# Altium footprint library SMD Resistors 0603.PcbLib: 67 footprints (part 3 of 5)
Each footprint in its own frame and in the unit in brackets; x right, y up, seen from the top. Pads: shape width x height; smd on the part's side, far side on the other; paste and mask are expansions set on the pad; w line width, h text height; cw(c..) or ccw(c..) is an arc to the next point about the centre after c.
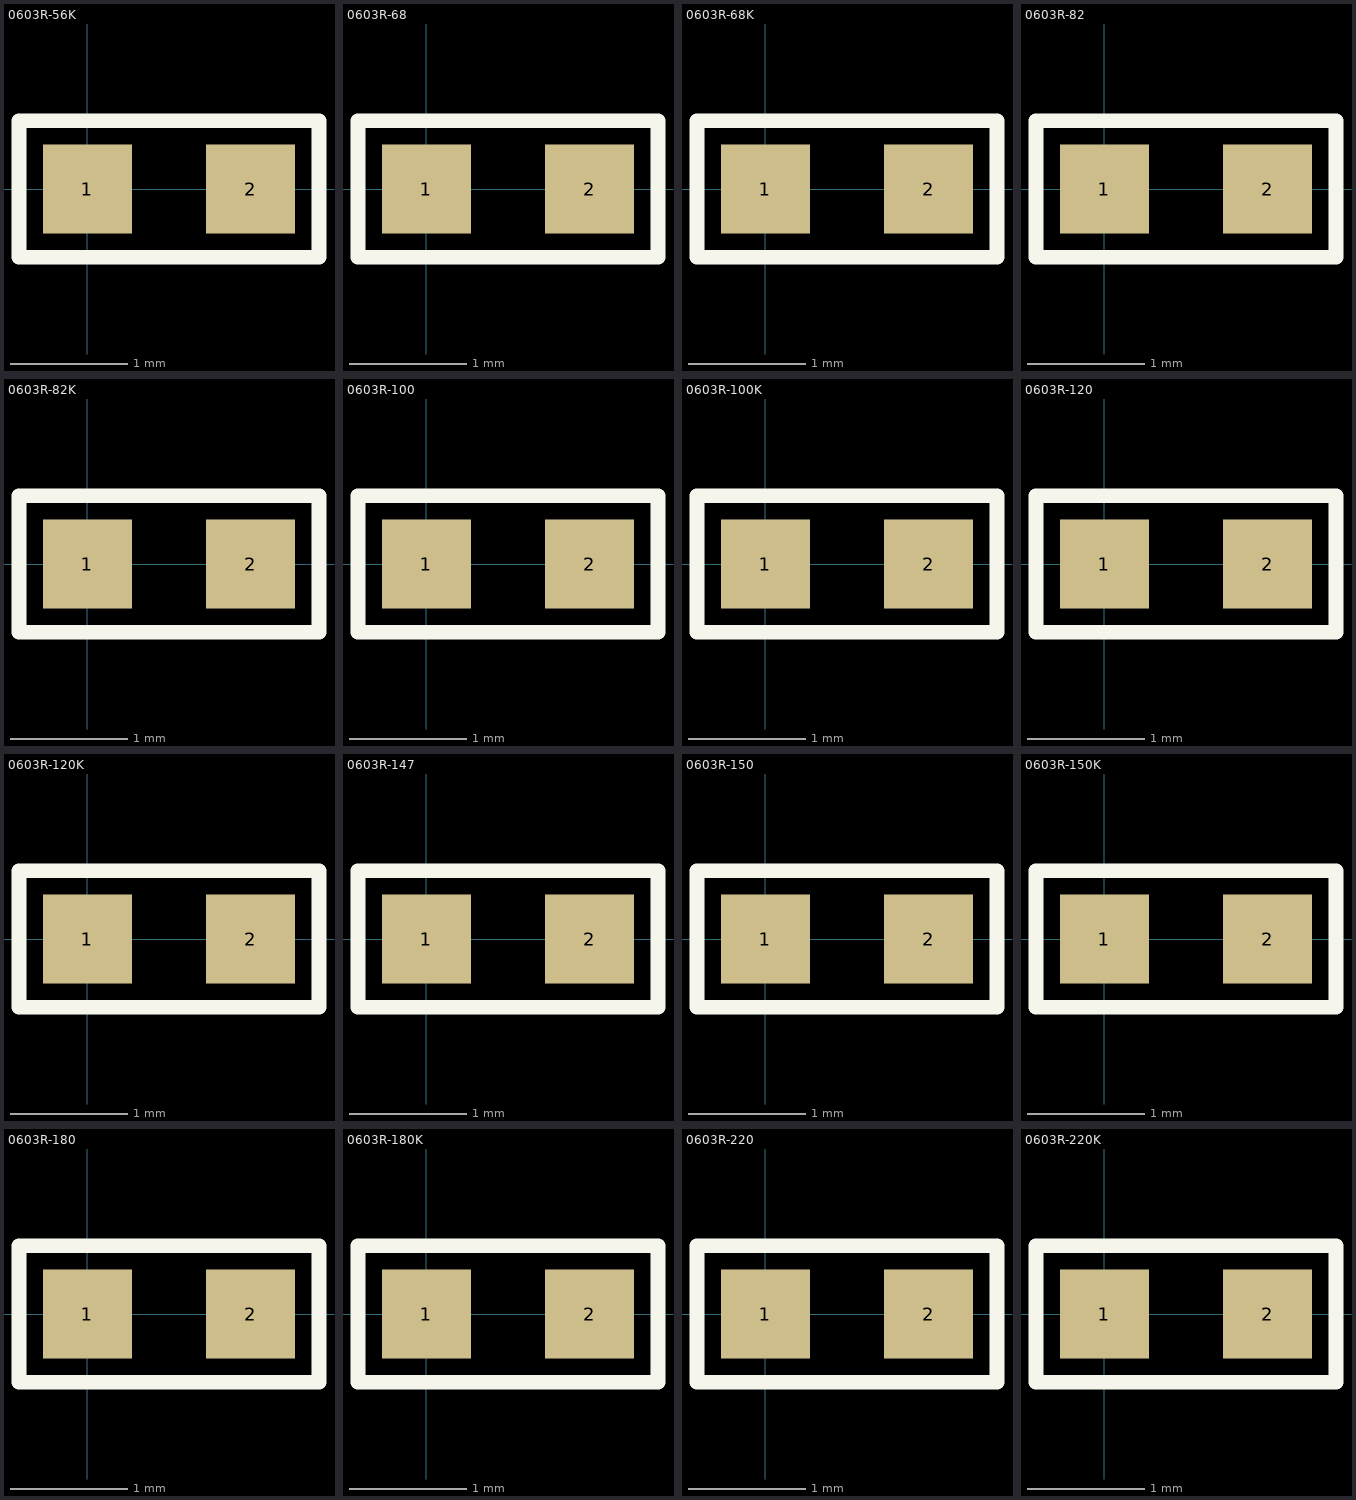
[diagram p2: the footprints below, top view; thin cyan lines are the x and y axes]

## 0603R-56K [mil] "RESISTOR 0603"
pads (2):
  rect 30x30 smd: 1(0,0) 2(55,0)
Top Overlay:
  lines w5: -23,-23 -23,23 78,23 78,-23 -23,-23
3D body: height 18, standoff 0, extent -3,-14 58,14
3D body: height 19, standoff 18, extent 5,-13 50,13
3D body: height 19, standoff 0, extent 50,-15 59,15
3D body: height 19, standoff 0, extent -4,-15 5,15
3D body: height 20, standoff 19, extent 17.5,-5 22.5,5
3D body: height 20, standoff 19, extent 25,-5 30,5
3D body: height 20, standoff 19, extent 32.5,-5 37.5,5

## 0603R-68 [mil] "RESISTOR 0603"
pads (2):
  rect 30x30 smd: 1(0,0) 2(55,0)
Top Overlay:
  lines w5: -23,-23 78,-23 78,23 -23,23 -23,-23
3D body: height 20, standoff 19, extent 32.5,-5 37.5,5
3D body: height 20, standoff 19, extent 17.5,-5 22.5,5
3D body: height 20, standoff 19, extent 25.25,-5.25 30.25,4.75
3D body: height 19, standoff 0, extent -4,-15 5,15
3D body: height 19, standoff 0, extent 50,-15 59,15
3D body: height 19, standoff 18, extent 5,-13 50,13
3D body: height 18, standoff 0, extent -3,-14 58,14

## 0603R-68K [mil] "RESISTOR 0603"
pads (2):
  rect 30x30 smd: 1(0,0) 2(55,0)
Top Overlay:
  lines w5: -23,-23 78,-23 78,23 -23,23 -23,-23
3D body: height 20, standoff 19, extent 17.5,-5 22.5,5
3D body: height 20, standoff 19, extent 25.25,-5.25 30.25,4.75
3D body: height 19, standoff 0, extent -4,-15 5,15
3D body: height 19, standoff 0, extent 50,-15 59,15
3D body: height 19, standoff 18, extent 5,-13 50,13
3D body: height 18, standoff 0, extent -3,-14 58,14
3D body: height 20, standoff 19, extent 32.5,-5 37.5,5

## 0603R-82 [mil] "RESISTOR 0603"
pads (2):
  rect 30x30 smd: 1(0,0) 2(55,0)
Top Overlay:
  lines w5: -23,-23 -23,23 78,23 78,-23 -23,-23
3D body: height 20, standoff 19, extent 25,-5 30,5
3D body: height 18, standoff 0, extent -3,-14 58,14
3D body: height 19, standoff 18, extent 5,-13 50,13
3D body: height 19, standoff 0, extent 50,-15 59,15
3D body: height 19, standoff 0, extent -4,-15 5,15
3D body: height 20, standoff 19, extent 17.5,-5 22.5,5
3D body: height 20, standoff 19, extent 32.5,-5 37.5,5

## 0603R-82K [mil] "RESISTOR 0603"
pads (2):
  rect 30x30 smd: 1(0,0) 2(55,0)
Top Overlay:
  lines w5: -23,-23 -23,23 78,23 78,-23 -23,-23
3D body: height 20, standoff 19, extent 25,-5 30,5
3D body: height 18, standoff 0, extent -3,-14 58,14
3D body: height 19, standoff 18, extent 5,-13 50,13
3D body: height 19, standoff 0, extent 50,-15 59,15
3D body: height 19, standoff 0, extent -4,-15 5,15
3D body: height 20, standoff 19, extent 17.5,-5 22.5,5
3D body: height 20, standoff 19, extent 32.5,-5 37.5,5

## 0603R-100 [mil] "RESISTOR 0603"
pads (2):
  rect 30x30 smd: 1(0,0) 2(55,0)
Top Overlay:
  lines w5: -23,-23 78,-23 78,23 -23,23 -23,-23
3D body: height 20, standoff 19, extent 32.5,-5 37.5,5
3D body: height 20, standoff 19, extent 17.5,-5 22.5,5
3D body: height 19, standoff 0, extent -4,-15 5,15
3D body: height 19, standoff 0, extent 50,-15 59,15
3D body: height 19, standoff 18, extent 5,-13 50,13
3D body: height 18, standoff 0, extent -3,-14 58,14
3D body: height 20, standoff 19, extent 25,-5 30,5

## 0603R-100K [mil] "RESISTOR 0603"
pads (2):
  rect 30x30 smd: 1(0,0) 2(55,0)
Top Overlay:
  lines w5: -23,-23 -23,23 78,23 78,-23 -23,-23
3D body: height 20, standoff 19, extent 32.5,-5 37.5,5
3D body: height 20, standoff 19, extent 25,-5 30,5
3D body: height 18, standoff 0, extent -3,-14 58,14
3D body: height 19, standoff 18, extent 5,-13 50,13
3D body: height 19, standoff 0, extent 50,-15 59,15
3D body: height 19, standoff 0, extent -4,-15 5,15
3D body: height 20, standoff 19, extent 17.5,-5 22.5,5

## 0603R-120 [mil] "RESISTOR 0603"
pads (2):
  rect 30x30 smd: 1(0,0) 2(55,0)
Top Overlay:
  lines w5: -23,-23 78,-23 78,23 -23,23 -23,-23
3D body: height 20, standoff 19, extent 32.5,-5 37.5,5
3D body: height 20, standoff 19, extent 17.5,-5 22.5,5
3D body: height 19, standoff 0, extent -4,-15 5,15
3D body: height 19, standoff 0, extent 50,-15 59,15
3D body: height 19, standoff 18, extent 5,-13 50,13
3D body: height 18, standoff 0, extent -3,-14 58,14
3D body: height 20, standoff 19, extent 25,-5 30,5

## 0603R-120K [mil] "RESISTOR 0603"
pads (2):
  rect 30x30 smd: 1(0,0) 2(55,0)
Top Overlay:
  lines w5: -23,-23 78,-23 78,23 -23,23 -23,-23
3D body: height 20, standoff 19, extent 32.5,-5 37.5,5
3D body: height 20, standoff 19, extent 17.5,-5 22.5,5
3D body: height 19, standoff 0, extent -4,-15 5,15
3D body: height 19, standoff 0, extent 50,-15 59,15
3D body: height 19, standoff 18, extent 5,-13 50,13
3D body: height 18, standoff 0, extent -3,-14 58,14
3D body: height 20, standoff 19, extent 25,-5 30,5

## 0603R-147 [mil] "RESISTOR 0603"
pads (2):
  rect 30x30 smd: 1(0,0) 2(55,0)
Top Overlay:
  lines w5: -23,-23 78,-23 78,23 -23,23 -23,-23
3D body: height 20, standoff 19, extent 28.5,-4.5 33.5,5.5
3D body: height 20, standoff 19, extent 22.5,-4.5 27.5,5.5
3D body: height 20, standoff 19, extent 17,-4.5 22,5.5
3D body: height 19, standoff 0, extent -4,-15 5,15
3D body: height 19, standoff 0, extent 50,-15 59,15
3D body: height 19, standoff 18, extent 5,-13 50,13
3D body: height 18, standoff 0, extent -3,-14 58,14
3D body: height 20, standoff 19, extent 35.5,-4.5 40.5,5.5

## 0603R-150 [mil] "RESISTOR 0603"
pads (2):
  rect 30x30 smd: 1(0,0) 2(55,0)
Top Overlay:
  lines w5: -23,-23 78,-23 78,23 -23,23 -23,-23
3D body: height 20, standoff 19, extent 32.5,-5 37.5,5
3D body: height 20, standoff 19, extent 25,-5 30,5
3D body: height 20, standoff 19, extent 17.5,-5 22.5,5
3D body: height 19, standoff 0, extent -4,-15 5,15
3D body: height 19, standoff 0, extent 50,-15 59,15
3D body: height 19, standoff 18, extent 5,-13 50,13
3D body: height 18, standoff 0, extent -3,-14 58,14

## 0603R-150K [mil] "RESISTOR 0603"
pads (2):
  rect 30x30 smd: 1(0,0) 2(55,0)
Top Overlay:
  lines w5: -23,-23 78,-23 78,23 -23,23 -23,-23
3D body: height 20, standoff 19, extent 32.5,-5 37.5,5
3D body: height 20, standoff 19, extent 25,-5 30,5
3D body: height 20, standoff 19, extent 17.5,-5 22.5,5
3D body: height 19, standoff 0, extent -4,-15 5,15
3D body: height 19, standoff 0, extent 50,-15 59,15
3D body: height 19, standoff 18, extent 5,-13 50,13
3D body: height 18, standoff 0, extent -3,-14 58,14

## 0603R-180 [mil] "RESISTOR 0603"
pads (2):
  rect 30x30 smd: 1(0,0) 2(55,0)
Top Overlay:
  lines w5: -23,-23 78,-23 78,23 -23,23 -23,-23
3D body: height 20, standoff 19, extent 25,-5 30,5
3D body: height 19, standoff 0, extent -4,-15 5,15
3D body: height 19, standoff 0, extent 50,-15 59,15
3D body: height 19, standoff 18, extent 5,-13 50,13
3D body: height 18, standoff 0, extent -3,-14 58,14
3D body: height 20, standoff 19, extent 17.5,-5 22.5,5
3D body: height 20, standoff 19, extent 32.5,-5 37.5,5

## 0603R-180K [mil] "RESISTOR 0603"
pads (2):
  rect 30x30 smd: 1(0,0) 2(55,0)
Top Overlay:
  lines w5: -23,-23 78,-23 78,23 -23,23 -23,-23
3D body: height 20, standoff 19, extent 32.5,-5 37.5,5
3D body: height 20, standoff 19, extent 25,-5 30,5
3D body: height 19, standoff 0, extent -4,-15 5,15
3D body: height 19, standoff 0, extent 50,-15 59,15
3D body: height 19, standoff 18, extent 5,-13 50,13
3D body: height 18, standoff 0, extent -3,-14 58,14
3D body: height 20, standoff 19, extent 17.5,-5 22.5,5

## 0603R-220 [mil] "RESISTOR 0603"
pads (2):
  rect 30x30 smd: 1(0,0) 2(55,0)
Top Overlay:
  lines w5: -23,-23 -23,23 78,23 78,-23 -23,-23
3D body: height 20, standoff 19, extent 17.5,-5 22.5,5
3D body: height 20, standoff 19, extent 25,-5 30,5
3D body: height 18, standoff 0, extent -3,-14 58,14
3D body: height 19, standoff 18, extent 5,-13 50,13
3D body: height 19, standoff 0, extent 50,-15 59,15
3D body: height 19, standoff 0, extent -4,-15 5,15
3D body: height 20, standoff 19, extent 32.5,-5 37.5,5

## 0603R-220K [mil] "RESISTOR 0603"
pads (2):
  rect 30x30 smd: 1(0,0) 2(55,0)
Top Overlay:
  lines w5: -23,-23 -23,23 78,23 78,-23 -23,-23
3D body: height 20, standoff 19, extent 32.5,-5 37.5,5
3D body: height 20, standoff 19, extent 17.5,-5 22.5,5
3D body: height 20, standoff 19, extent 25,-5 30,5
3D body: height 18, standoff 0, extent -3,-14 58,14
3D body: height 19, standoff 18, extent 5,-13 50,13
3D body: height 19, standoff 0, extent 50,-15 59,15
3D body: height 19, standoff 0, extent -4,-15 5,15